# EAGLE library part MMA8452Q (library gghc)
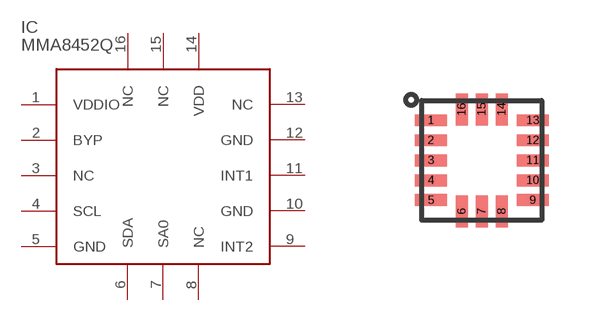
[diagram p0: symbol with the pads of MMA8450Q; footprint MMA8450Q]

Designator prefix IC

## MMA8452Q  [MMA8450Q]
1  VDDIO  sup
2  BYP  pas
3  NC  nc
4  SCL  in
5  GND  sup
6  SDA
7  SA0  in
8  NC  nc
9  INT2  out
10  GND  sup
11  INT1  out
12  GND  sup
13  NC  nc
14  VDD  sup
15  NC  nc
16  NC  nc

## Footprint MMA8450Q (pad centres in mm)
Package per AN3923 from Freescale
smd 0.8 x 0.3: 1 -1.275,1; 2 -1.275,0.5; 3 -1.275,0; 4 -1.275,-0.5; 5 -1.275,-1; 9 1.275,-1; 10 1.275,-0.5; 11 1.275,0; 12 1.275,0.5; 13 1.275,1
smd 0.3 x 0.8: 6 -0.5,-1.275; 7 0,-1.275; 8 0.5,-1.275; 14 0.5,1.275; 15 0,1.275; 16 -0.5,1.275